# EAGLE library part Z16FXX11FI (library Zilog-ZNEO-v1_0)
ZNEO Z16F Series in QFP-80 package - includes the following parts: Z16F2811FI (128K Flash) Z16F6411FI (64K Flash) Z16F3211FI (32K Flash) ZiLOG, Inc. http://www.zilog.com/
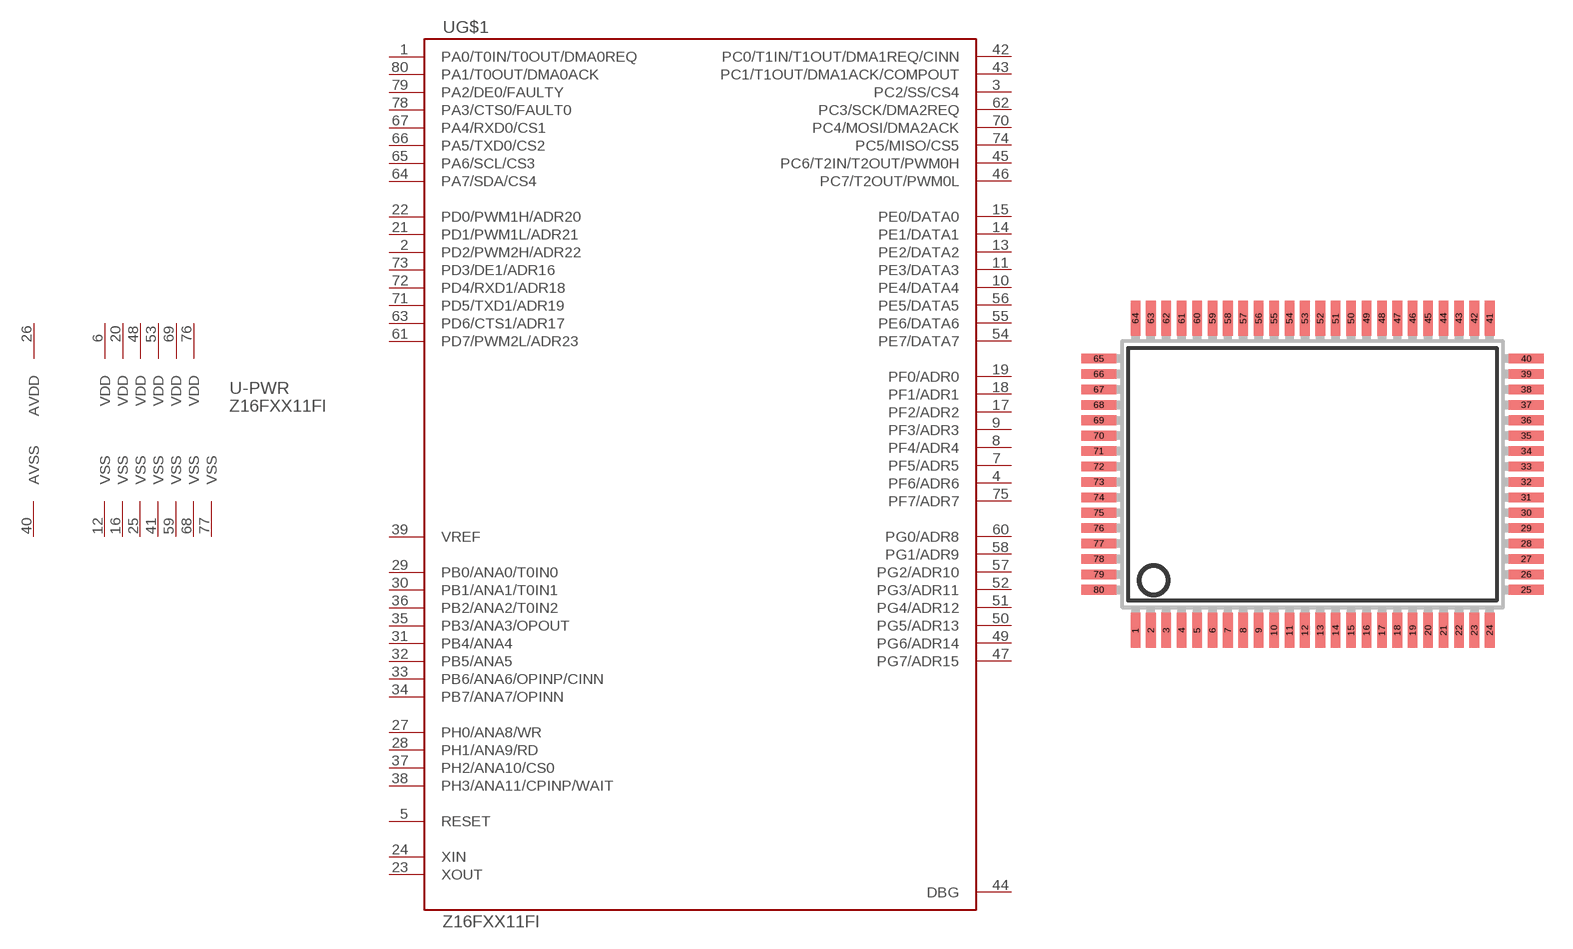
[diagram p2: symbol with the pads of SQFP-R-14X20-80; footprint SQFP-R-14X20-80]

Designator prefix -; gates G$1=Z16FXX11FI -PWR=PWR_80-PIN

## Z16FXX11FI  [SQFP-R-14X20-80]
1  G$1:PA0/T0IN/T0OUT/DMA0REQ
2  G$1:PD2/PWM2H/ADR22
3  G$1:PC2/SS/CS4
4  G$1:PF6/ADR6
5  G$1:RESET
6  -PWR:VDD
7  G$1:PF5/ADR5
8  G$1:PF4/ADR4
9  G$1:PF3/ADR3
10  G$1:PE4/DATA4
11  G$1:PE3/DATA3
12  -PWR:VSS
13  G$1:PE2/DATA2
14  G$1:PE1/DATA1
15  G$1:PE0/DATA0
16  -PWR:VSS
17  G$1:PF2/ADR2
18  G$1:PF1/ADR1
19  G$1:PF0/ADR0
20  -PWR:VDD
21  G$1:PD1/PWM1L/ADR21
22  G$1:PD0/PWM1H/ADR20
23  G$1:XOUT
24  G$1:XIN
25  -PWR:VSS
26  -PWR:AVDD
27  G$1:PH0/ANA8/WR
28  G$1:PH1/ANA9/RD
29  G$1:PB0/ANA0/T0IN0
30  G$1:PB1/ANA1/T0IN1
31  G$1:PB4/ANA4
32  G$1:PB5/ANA5
33  G$1:PB6/ANA6/OPINP/CINN
34  G$1:PB7/ANA7/OPINN
35  G$1:PB3/ANA3/OPOUT
36  G$1:PB2/ANA2/T0IN2
37  G$1:PH2/ANA10/CS0
38  G$1:PH3/ANA11/CPINP/WAIT
39  G$1:VREF
40  -PWR:AVSS
41  -PWR:VSS
42  G$1:PC0/T1IN/T1OUT/DMA1REQ/CINN
43  G$1:PC1/T1OUT/DMA1ACK/COMPOUT
44  G$1:DBG
45  G$1:PC6/T2IN/T2OUT/PWM0H
46  G$1:PC7/T2OUT/PWM0L
47  G$1:PG7/ADR15
48  -PWR:VDD
49  G$1:PG6/ADR14
50  G$1:PG5/ADR13
51  G$1:PG4/ADR12
52  G$1:PG3/ADR11
53  -PWR:VDD
54  G$1:PE7/DATA7
55  G$1:PE6/DATA6
56  G$1:PE5/DATA5
57  G$1:PG2/ADR10
58  G$1:PG1/ADR9
59  -PWR:VSS
60  G$1:PG0/ADR8
61  G$1:PD7/PWM2L/ADR23
62  G$1:PC3/SCK/DMA2REQ
63  G$1:PD6/CTS1/ADR17
64  G$1:PA7/SDA/CS4
65  G$1:PA6/SCL/CS3
66  G$1:PA5/TXD0/CS2
67  G$1:PA4/RXD0/CS1
68  -PWR:VSS
69  -PWR:VDD
70  G$1:PC4/MOSI/DMA2ACK
71  G$1:PD5/TXD1/ADR19
72  G$1:PD4/RXD1/ADR18
73  G$1:PD3/DE1/ADR16
74  G$1:PC5/MISO/CS5
75  G$1:PF7/ADR7
76  -PWR:VDD
77  -PWR:VSS
78  G$1:PA3/CTS0/FAULT0
79  G$1:PA2/DE0/FAULTY
80  G$1:PA1/T0OUT/DMA0ACK

## Footprint SQFP-R-14X20-80 (pad centres in mm)
QFP-80 shrink quad flat pack, rectangle
smd 0.5 x 1.8: 1 -9.2,-8.1; 2 -8.4,-8.1; 3 -7.6,-8.1; 4 -6.8,-8.1; 5 -6,-8.1; 6 -5.2,-8.1; 7 -4.4,-8.1; 8 -3.6,-8.1; 9 -2.8,-8.1; 10 -2,-8.1; 11 -1.2,-8.1; 12 -0.4,-8.1; 13 0.4,-8.1; 14 1.2,-8.1; 15 2,-8.1; 16 2.8,-8.1; 17 3.6,-8.1; 18 4.4,-8.1; 19 5.2,-8.1; 20 6,-8.1; 21 6.8,-8.1; 22 7.6,-8.1; 23 8.4,-8.1; 24 9.2,-8.1; 41 9.2,8.1; 42 8.4,8.1; 43 7.6,8.1; 44 6.8,8.1; 45 6,8.1; 46 5.2,8.1; 47 4.4,8.1; 48 3.6,8.1; 49 2.8,8.1; 50 2,8.1; 51 1.2,8.1; 52 0.4,8.1; 53 -0.4,8.1; 54 -1.2,8.1; 55 -2,8.1; 56 -2.8,8.1; 57 -3.6,8.1; 58 -4.4,8.1; 59 -5.2,8.1; 60 -6,8.1; 61 -6.8,8.1; 62 -7.6,8.1; 63 -8.4,8.1; 64 -9.2,8.1
smd 1.8 x 0.5: 25 11.1,-6; 26 11.1,-5.2; 27 11.1,-4.4; 28 11.1,-3.6; 29 11.1,-2.8; 30 11.1,-2; 31 11.1,-1.2; 32 11.1,-0.4; 33 11.1,0.4; 34 11.1,1.2; 35 11.1,2; 36 11.1,2.8; 37 11.1,3.6; 38 11.1,4.4; 39 11.1,5.2; 40 11.1,6; 65 -11.1,6; 66 -11.1,5.2; 67 -11.1,4.4; 68 -11.1,3.6; 69 -11.1,2.8; 70 -11.1,2; 71 -11.1,1.2; 72 -11.1,0.4; 73 -11.1,-0.4; 74 -11.1,-1.2; 75 -11.1,-2; 76 -11.1,-2.8; 77 -11.1,-3.6; 78 -11.1,-4.4; 79 -11.1,-5.2; 80 -11.1,-6